# Altium integrated library Renesas Microprocessor SuperH.IntLib: 433 symbols (part 4 of 62)
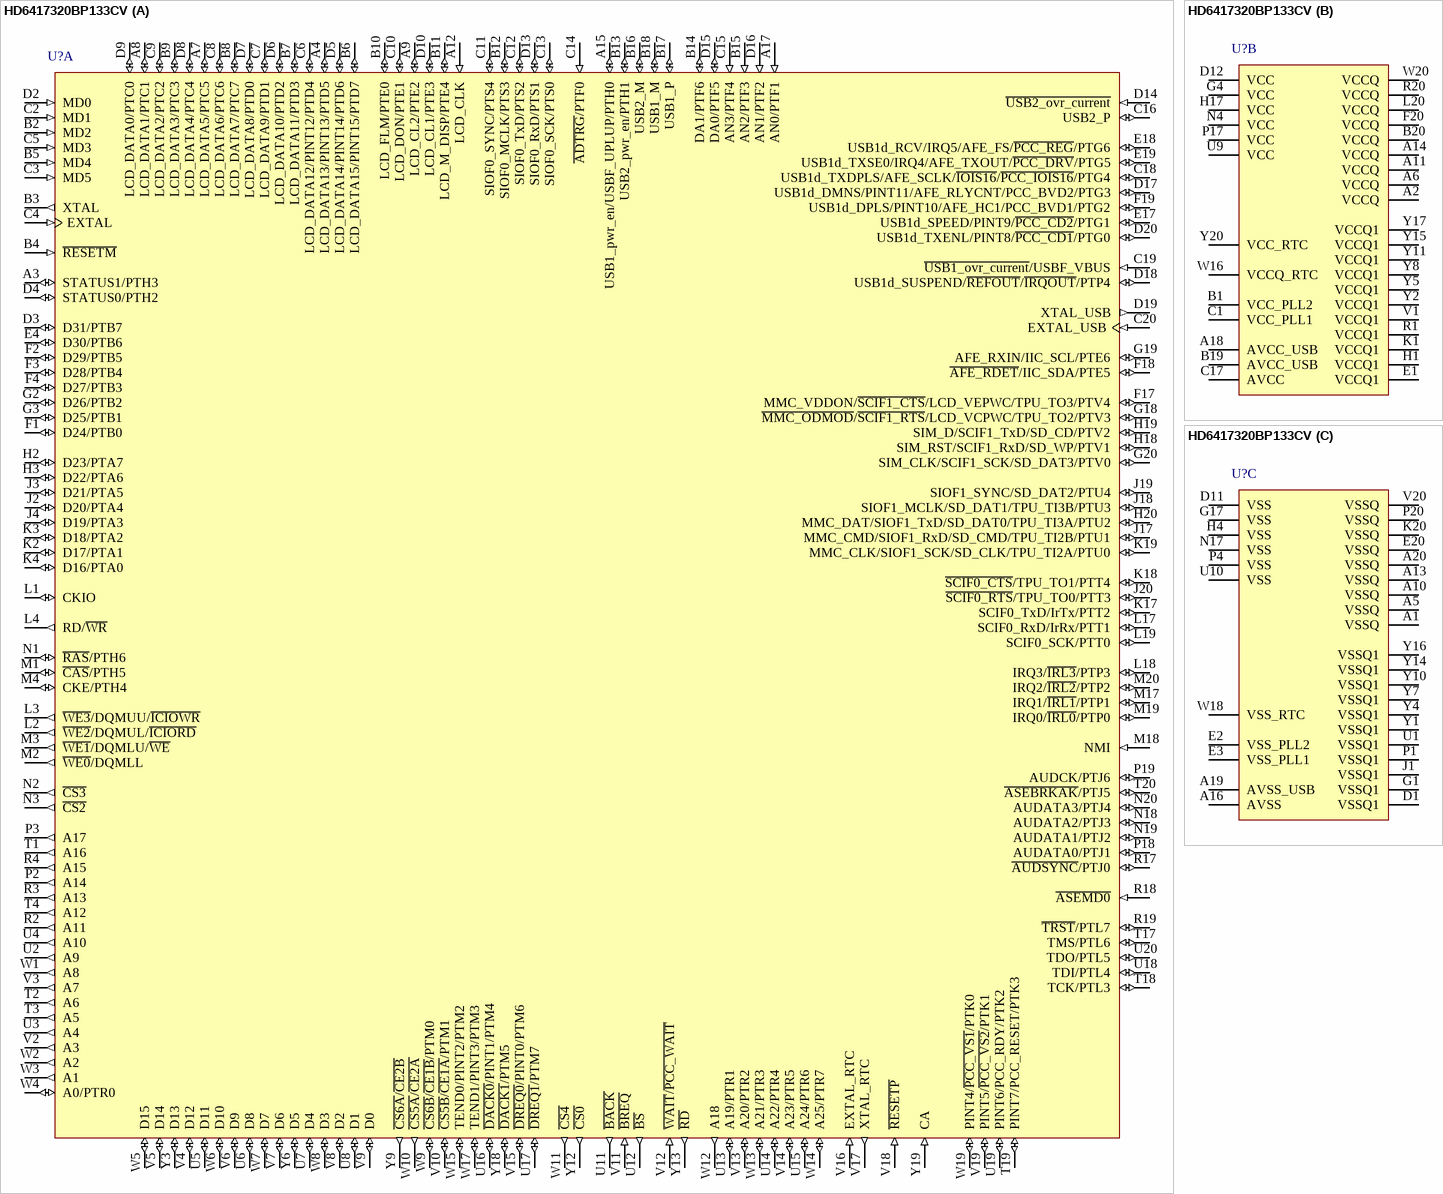
[diagram p281: symbol HD6417320BP133CV]

## HD6417320BP133CV
designator U?
32-Bit RISC Microcomputer, SH7700 Series, SH3-DSP core, 133MHz, 16K RAM, 17x17mm 256-pin CSP, -20 to 75°C; Published: 28-Aug-2009; DatasheetVersion: Rev.3.00, Jan-2008; PackageVersion: Sep-2008; PackageReference: PLBG0256GA-A; Publisher: Altium Limited; PackageDescription: 256-Ball Plastic Low Profile Fine-Pitch BGA, 17 x 17 mm Body, 0.8 mm Pitch; Code_JEITA: P-LFBGA256-17x17-0.80; ComponentLink1Description: Manufacturer Link; ComponentLink1URL: http://www.renesas.com/fmwk.jsp?cnt=sh7720_root.jsp&fp=/products/mpumcu/superh_family/sh7700_series/sh7720_group/; ComponentLink2Description: Datasheet; ComponentLink2URL: http://documentation.renesas.com/eng/products/mpumcu/rej09b0033_sh7720.pdf; ComponentLink3Description: Packaging Specification; ComponentLink3URL: http://sg.renesas.com/media/products/common_info/package/pdf/ic/code/plbg0256ga_a.pdf
footprint PLBG0256GA-A (BGA, 256-Leads, Body 17x17mm, Pitch 0.8mm)
part A pins: A3 STATUS1/PTH3 (io) "Status output/general-purpose port", A4 LCD_DATA13/PINT13/PTD5 (io) "LCD data/port interrupt/general-purpose port", A7 LCD_DATA5/PTC5 (io) "LCD data/general-purpose port", A8 LCD_DATA1/PTC1 (io) "LCD data/general-purpose port", A9 LCD_CL2/PTE2 (io) "LCD shift clock 2/general-purpose port", A12 LCD_CLK (in) "LCD clock source", A15 USB1_pwr_en/USBF_UPLUP/PTH0 (io) "USB1 power-enable/pull-up control/general-purpose port", A17 AN0/PTF1 (in) "ADC analog input/general-purpose port", B2 MD2 (in) "Clock mode setting", B3 XTAL (out) "Crystal", B4 ~{RESETM} (in) "Manual reset", B5 MD4 (in) "Bus width setting", B6 LCD_DATA15/PINT15/PTD7 (io) "LCD data/port interrupt/general-purpose port", B7 LCD_DATA11/PTD3 (io) "LCD data/general-purpose port", B8 LCD_DATA7/PTC7 (io) "LCD data/general-purpose port", B9 LCD_DATA3/PTC3 (io) "LCD data/general-purpose port", B10 LCD_FLM/PTE0 (io) "LCD line marker/general-purpose port", B11 LCD_M_DISP/PTE4 (io) "LCD current-alternating signal/general-purpose port", B12 SIOF0_MCLK/PTS3 (io) "SIOF master clock/general-purpose port", B13 USB2_pwr_en/PTH1 (io) "USB2 power-enable/general-purpose port", B14 DA1/PTF6 (io) "DAC analog output/general-purpose port", B15 AN2/PTF3 (in) "ADC analog input/general-purpose port", B16 USB2_M (io) "USB D-port 2", B17 USB1_P (io) "USB D+port 1", B18 USB1_M (io) "USB D-port 1", C2 MD1 (in) "Clock mode setting", C3 MD5 (in) "Endian setting", C4 EXTAL (in) "External clock", C5 MD3 (in) "Bus width setting", C6 LCD_DATA12/PINT12/PTD4 (io) "LCD data/port interrupt/general-purpose port", C7 LCD_DATA9/PTD1 (io) "LCD data/general-purpose port", C8 LCD_DATA6/PTC6 (io) "LCD data/general-purpose port", C9 LCD_DATA2/PTC2 (io) "LCD data/general-purpose port", C10 LCD_DON/PTE1 (io) "LCD display on signal/general-purpose port", C11 SIOF0_SYNC/PTS4 (io) "SIOF frame sync/general-purpose port", C12 SIOF0_TxD/PTS2 (io) "SIOF transmit data/general-purpose port", C13 SIOF0_SCK/PTS0 (io) "SIOF serial clock/general-purpose port", C14 ~{ADTRG}/PTF0 (in) "ADC external trigger/general-purpose port", C15 AN3/PTF4 (in) "ADC analog input/general-purpose port", C16 USB2_P (io) "USB D+port 2", C18 USB1d_TXDPLS/AFE_SCLK/~{IOIS16}/~{PCC_IOIS16}/PTG4 (io) "D+transmit output/AFE shift clock/16-bit IO/PCCI 6-bit IO/general-purpose port", C19 ~{USB1_ovr_current}/USBF_VBUS (in) "USB1 overcurrent/monitor", C20 EXTAL_USB (in) "USB external clock", D2 MD0 (in) "Clock mode setting", D3 D31/PTB7 (io) "Data bus/general-purpose port", D4 STATUS0/PTH2 (io) "Status output/general-purpose port", D5 LCD_DATA14/PINT14/PTD6 (io) "LCD data/port interrupt/general-purpose port", D6 LCD_DATA10/PTD2 (io) "LCD data/general-purpose port", D7 LCD_DATA8/PTD0 (io) "LCD data/general-purpose port", D8 LCD_DATA4/PTC4 (io) "LCD data/general-purpose port", D9 LCD_DATA0/PTC0 (io) "LCD data/general-purpose port", D10 LCD_CL1/PTE3 (io) "LCD shift clock 1/general-purpose port", D13 SIOF0_RxD/PTS1 (io) "SIOF receive data/general-purpose port", D14 ~{USB2_ovr_current} (in) "USB2 port overcurrent", D15 DA0/PTF5 (io) "DAC analog output/general-purpose port", D16 AN1/PTF2 (in) "ADC analog input/general-purpose port", D17 USB1d_DMNS/PINT11/AFE_RLYCNT/PCC_BVD2/PTG3 (io) "D- signal input/port interrupt/AFE on-hook control/PCC buttery detection 2/general-purpose port", D18 USB1d_SUSPEND/~{REFOUT}/~{IRQOUT}/PTP4 (io) "Suspend state/bus request (refresh)/bus request (interrupt)/general-purpose port", D19 XTAL_USB (out) "USB crystal", D20 USB1d_TXENL/PINT8/~{PCC_CD1}/PTG0 (io) "Driver output enable/port interrupt/PCC card detection 1/general-purpose port", E4 D30/PTB6 (io) "Data bus/general-purpose port", E17 USB1d_SPEED/PINT9/~{PCC_CD2}/PTG1 (io) "Speed control/port interrupt/PCC card detection 2/general-purpose port", E18 USB1d_RCV/IRQ5/AFE_FS/~{PCC_REG}/PTG6 (io) "Receive data/interrupt/area indicate signal/AFE frame synchronization/PCC space indication/general-purpose port", E19 USB1d_TXSE0/IRQ4/AFE_TXOUT/~{PCC_DRV}/PTG5 (io) "SE0 state/interrupt/AFE serial transmission/PCC buffer control/general-purpose port", F1 D24/PTB0 (io) "Data bus/general-purpose port", F2 D29/PTB5 (io) "Data bus/general-purpose port", F3 D28/PTB4 (io) "Data bus/general-purpose port", F4 D27/PTB3 (io) "Data bus/general-purpose port", F17 MMC_VDDON/~{SCIF1_CTS}/LCD_VEPWC/TPU_TO3/PTV4 (io) "MMC card power supply control/SCIF transmit enable/LCD power supply control/TPU compare-match output/general-purpose port", F18 ~{AFE_RDET}/IIC_SDA/PTE5 (io) "AFE ringing/IIC data I/O /general-purpose port", F19 USB1d_DPLS/PINT10/AFE_HC1/PCC_BVD1/PTG2 (io) "D+ transmit input/port interrupt/AFE hardware control/PCC battery detection 1/general-purpose port", G2 D26/PTB2 (io) "Data bus/general-purpose port", G3 D25/PTB1 (io) "Data bus/general-purpose port", G18 ~{MMC_ODMOD}/~{SCIF1_RTS}/LCD_VCPWC/TPU_TO2/PTV3 (io) "MMC open drain control/SCIF transmit request/LCD power supply control/TPU compare-match output/general-purpose port", G19 AFE_RXIN/IIC_SCL/PTE6 (io) "AFE serial receive/IIC clock/general-purpose port", G20 SIM_CLK/SCIF1_SCK/SD_DAT3/PTV0 (io) "SIM clock/SCIF serial clock/SD data/general-purpose port", H2 D23/PTA7 (io) "Data bus/general-purpose port", H3 D22/PTA6 (io) "Data bus/general-purpose port", H18 SIM_RST/SCIF1_RxD/SD_WP/PTV1 (io) "SIM reset/SCIF receive data/SD write protect/general-purpose port", H19 SIM_D/SCIF1_TxD/SD_CD/PTV2 (io) "SIM data/SCIF transmit data/SD card detection/general-purpose port", H20 MMC_DAT/SIOF1_TxD/SD_DAT0/TPU_TI3A/PTU2 (io) "MMC data/SIOF transmit data/SD data/TPU clock input/general-purpose port", J2 D20/PTA4 (io) "Data bus/general-purpose port", J3 D21/PTA5 (io) "Data bus/general-purpose port", J4 D19/PTA3 (io) "Data bus/general-purpose port", J17 MMC_CMD/SIOF1_RxD/SD_CMD/TPU_TI2B/PTU1 (io) "MMC command/SIOF receive data/SD command/TPU clock input/general-purpose port", J18 SIOF1_MCLK/SD_DAT1/TPU_TI3B/PTU3 (io) "SIOF master clock/SD data/TPU clock input/general-purpose port", J19 SIOF1_SYNC/SD_DAT2/PTU4 (io) "SIOF frame sync/SD data/general-purpose port", J20 ~{SCIF0_RTS}/TPU_TO0/PTT3 (io) "SCIF transmit request/TPU compare-match output/general-purpose port", K2 D17/PTA1 (io) "Data bus/general-purpose port", K3 D18/PTA2 (io) "Data bus/general-purpose port", K4 D16/PTA0 (io) "Data bus/general-purpose port", K17 SCIF0_TxD/IrTx/PTT2 (io) "SCIF transmit data/IrDA transmit data/general-purpose port", K18 ~{SCIF0_CTS}/TPU_TO1/PTT4 (io) "SCIF transmit enable/TPU compare-match output/general-purpose port", K19 MMC_CLK/SIOF1_SCK/SD_CLK/TPU_TI2A/PTU0 (io) "MMC clock/SIOF serial clock/SD clock/TPU clock input/general-purpose port", L1 CKIO (io) "System clock", L2 ~{WE2}/DQMUL/~{ICIORD} (out) "Second-highest-byte write/DQ mask UL/IO read", L3 ~{WE3}/DQMUU/~{ICIOWR} (out) "Highest-byte write/DQ mask UU/IO write", L4 RD/~{WR} (out) "Read/write signal", L17 SCIF0_RxD/IrRx/PTT1 (io) "SCIF receive data/IrDA receive data/general-purpose port", L18 IRQ3/~{IRL3}/PTP3 (io) "Interrupt/interrupt/general-purpose port", L19 SCIF0_SCK/PTT0 (io) "SCIF serial clock/general-purpose port", M1 ~{CAS}/PTH5 (io) "Column address/general-purpose port", M2 ~{WE0}/DQMLL (out) "Lowest-byte write/DQ mask LL", M3 ~{WE1}/DQMLU/~{WE} (out) "Second-lowest-byte write/DQ mask LU/write enable", M4 CKE/PTH4 (io) "Clock enable/general-purpose port O/IO", M17 IRQ1/~{IRL1}/PTP1 (io) "Interrupt/interrupt/general-purpose port", M18 NMI (in) "NMI interrupt", M19 IRQ0/~{IRL0}/PTP0 (io) "Interrupt/interrupt/general-purpose port", M20 IRQ2/~{IRL2}/PTP2 (io) "Interrupt/interrupt/general-purpose port", N1 ~{RAS}/PTH6 (io) "Row address/general-purpose port O/IO", N2 ~{CS3} (out) "Chip select", N3 ~{CS2} (out) "Chip select", N18 AUDATA2/PTJ3 (io) "AUD data/general-purpose port", N19 AUDATA1/PTJ2 (io) "AUD data/general-purpose port", N20 AUDATA3/PTJ4 (io) "AUD data/general-purpose port", P2 A14 (out) "Address bus", P3 A17 (out) "Address bus", P18 AUDATA0/PTJ1 (io) "AUD data/general-purpose port", P19 AUDCK/PTJ6 (io) "AUD clock/general-purpose port", R2 A11 (out) "Address bus", R3 A13 (out) "Address bus", R4 A15 (out) "Address bus", R17 ~{AUDSYNC}/PTJ0 (io) "AUD synchronous signal/general-purpose port", R18 ~{ASEMD0} (in) "ASE mode", R19 ~{TRST}/PTL7 (io) "Test reset/general-purpose port", T1 A16 (out) "Address bus", T2 A6 (out) "Address bus", T3 A5 (out) "Address bus", T4 A12 (out) "Address bus", T17 TMS/PTL6 (io) "Test mode select/general-purpose port", T18 TCK/PTL3 (io) "Test clock/general-purpose port", T19 PINT7/PCC_RESET/PTK3 (io) "Port interrupt/PCC reset/general-purpose port", T20 ~{ASEBRKAK}/PTJ5 (io) "ASE break mode acknowledge/general-purpose port", U2 A9 (out) "Address bus", U3 A4 (out) "Address bus", U4 A10 (out) "Address bus", U5 D11 (io) "Data bus", U6 D8 (io) "Data bus", U7 D4 (io) "Data bus", U8 D1 (io) "Data bus", U11 ~{BACK} (out) "Bus request acknowledge", U12 ~{BS} (out) "Bus start", U13 A19/PTR1 (io) "Address bus/general-purpose port", U14 A22/PTR4 (io) "Address bus/general-purpose port", U15 A24/PTR6 (io) "Address bus/general-purpose port", U16 ~{DACK0}/PINT1/PTM4 (io) "DMA transfer request reception/port interrupt/general-purpose port", U17 ~{DREQ1}/PTM7 (io) "DMA transfer request/general-purpose port", U18 TDI/PTL4 (io) "Test data input/general-purpose port", U19 PINT6/PCC_RDY/PTK2 (io) "Port interrupt/PCC ready/general-purpose port", U20 TDO/PTL5 (io) "Test data output/general-purpose port", V2 A3 (out) "Address bus", V3 A7 (out) "Address bus", V4 D12 (io) "Data bus", V5 D14 (io) "Data bus", V6 D9 (io) "Data bus", V7 D6 (io) "Data bus", V8 D2 (io) "Data bus", V9 D0 (io) "Data bus", V10 ~{CS5B}/~{CE1A}/PTM1 (io) "Chip select/chip select/general-purpose port", V11 ~{BREQ} (in) "Bus request", V12 ~{WAIT}/~{PCC_WAIT} (in) "Wait/PCC wait", V13 A20/PTR2 (io) "Address bus/general-purpose port", V14 A23/PTR5 (io) "Address bus/general-purpose port", V15 ~{DREQ0}/PINT0/PTM6 (io) "DMA transfer request/port interrupt/general-purpose port", V16 EXTAL_RTC (in) "RTC external clock", V17 XTAL_RTC (out) "RTC crystal", V18 ~{RESETP} (in) "Power-on reset", V19 PINT5/~{PCC_VS2}/PTK1 (io) "Port interrupt/PCC voltage detection 2/general-purpose port", W1 A8 (out) "Address bus", W2 A2 (out) "Address bus", W3 A1 (out) "Address bus", W4 A0/PTR0 (io) "Address bus/general-purpose port", W5 D15 (io) "Data bus", W6 D10 (io) "Data bus", W7 D7 (io) "Data bus", W8 D3 (io) "Data bus", W9 ~{CS6B}/~{CE1B}/PTM0 (io) "Chip select/chip select/general-purpose port", W10 ~{CS5A}/~{CE2A} (out) "Chip select/chip select", W11 ~{CS4} (out) "Chip select", W12 A18 (out) "Address bus", W13 A21/PTR3 (io) "Address bus/general-purpose port", W14 A25/PTR7 (io) "Address bus/general-purpose port", W15 TEND0/PINT2/PTM2 (io) "DMA transfer end/port interrupt/general-purpose port", W17 TEND1/PINT3/PTM3 (io) "DMA transfer end/port interrupt/general-purpose port", W19 PINT4/~{PCC_VS1}/PTK0 (io) "Port interrupt/PCC voltage detection 1/general-purpose port", Y3 D13 (io) "Data bus", Y6 D5 (io) "Data bus", Y9 ~{CS6A}/~{CE2B} (out) "Chip select/chip select", Y12 ~{CS0} (out) "Chip select", Y13 ~{RD} (out) "Read strobe", Y18 ~{DACK1}/PTM5 (io) "DMA transfer request reception/general-purpose port", Y19 CA (in) "Chip active"
part B pins: A2 VCCQ (power) "I/O power supply (3.3V)", A6 VCCQ (power) "I/O power supply (3.3V)", A11 VCCQ (power) "I/O power supply (3.3V)", A14 VCCQ (power) "I/O power supply (3.3V)", A18 AVCC_USB (power) "USB power supply (3.3V)", B1 VCC_PLL2 (power) "PLL2 power supply (1.5V)", B19 AVCC_USB (power) "USB power supply (3.3V)", B20 VCCQ (power) "I/O power supply (3.3V)", C1 VCC_PLL1 (power) "PLL1 power supply (1.5V)", C17 AVCC (power) "Analog power supply (3.3V)", D12 VCC (power) "Internal power supply (1.5V)", E1 VCCQ1 (power) "I/O power supply (1.8/3.3V)", F20 VCCQ (power) "I/O power supply (3.3V)", G4 VCC (power) "Internal power supply (1.5V)", H1 VCCQ1 (power) "I/O power supply (1.8/3.3V)", H17 VCC (power) "Power-supply (1.5V)", K1 VCCQ1 (power) "I/O power supply (1.8/3.3V)", L20 VCCQ (power) "I/O power supply (3.3V)", N4 VCC (power) "Power-supply (1.5V)", P17 VCC (power) "Internal power supply (1.5V)", R1 VCCQ1 (power) "I/O power supply (1.8/3.3V)", R20 VCCQ (power) "I/O power supply (3.3V)", U9 VCC (power) "Internal power supply (1.5V)", V1 VCCQ1 (power) "I/O power supply (1.8/3.3V)", W16 VCCQ_RTC (power) "RTC power supply (3.3V)", W20 VCCQ (power) "I/O power supply (3.3V)", Y2 VCCQ1 (power) "I/O power supply (1.8/3.3V)", Y5 VCCQ1 (power) "I/O power supply (1.8/3.3V)", Y8 VCCQ1 (power) "I/O power supply (1.8/3.3V)", Y11 VCCQ1 (power) "I/O power supply (1.8/3.3V)", Y15 VCCQ1 (power) "I/O power supply (1.8/3.3V)", Y17 VCCQ1 (power) "I/O power supply (1.8/3.3V)", Y20 VCC_RTC (power) "RTC power supply (1.5V)"
part C pins: A1 VSSQ (power) "I/O power supply (0V)", A5 VSSQ (power) "I/O power supply (0V)", A10 VSSQ (power) "I/O power supply (0V)", A13 VSSQ (power) "I/O power supply (0V)", A16 AVSS (power) "Analog power supply (0V)", A19 AVSS_USB (power) "USB power supply (0V)", A20 VSSQ (power) "I/O power supply (0V)", D1 VSSQ1 (power) "I/O power supply (0V)", D11 VSS (power) "Internal power supply (0V)", E2 VSS_PLL2 (power) "PLL2 power supply (0V)", E3 VSS_PLL1 (power) "PLL1 power supply (0V)", E20 VSSQ (power) "I/O power supply (0V)", G1 VSSQ1 (power) "I/O power supply (0V)", G17 VSS (power) "Internal power supply (0V)", H4 VSS (power) "Power-supply (0V)", J1 VSSQ1 (power) "I/O power supply (0V)", K20 VSSQ (power) "I/O power supply (0V)", N17 VSS (power) "Power-supply (0V)", P1 VSSQ1 (power) "I/O power supply (0V)", P4 VSS (power) "Internal power supply (0V)", P20 VSSQ (power) "I/O power supply (0V)", U1 VSSQ1 (power) "I/O power supply (0V)", U10 VSS (power) "Internal power supply (0V)", V20 VSSQ (power) "I/O power supply (0V)", W18 VSS_RTC (power) "RTC power supply (0V)", Y1 VSSQ1 (power) "I/O power supply (0V)", Y4 VSSQ1 (power) "I/O power supply (0V)", Y7 VSSQ1 (power) "I/O power supply (0V)", Y10 VSSQ1 (power) "I/O power supply (0V)", Y14 VSSQ1 (power) "I/O power supply (0V)", Y16 VSSQ1 (power) "I/O power supply (0V)"

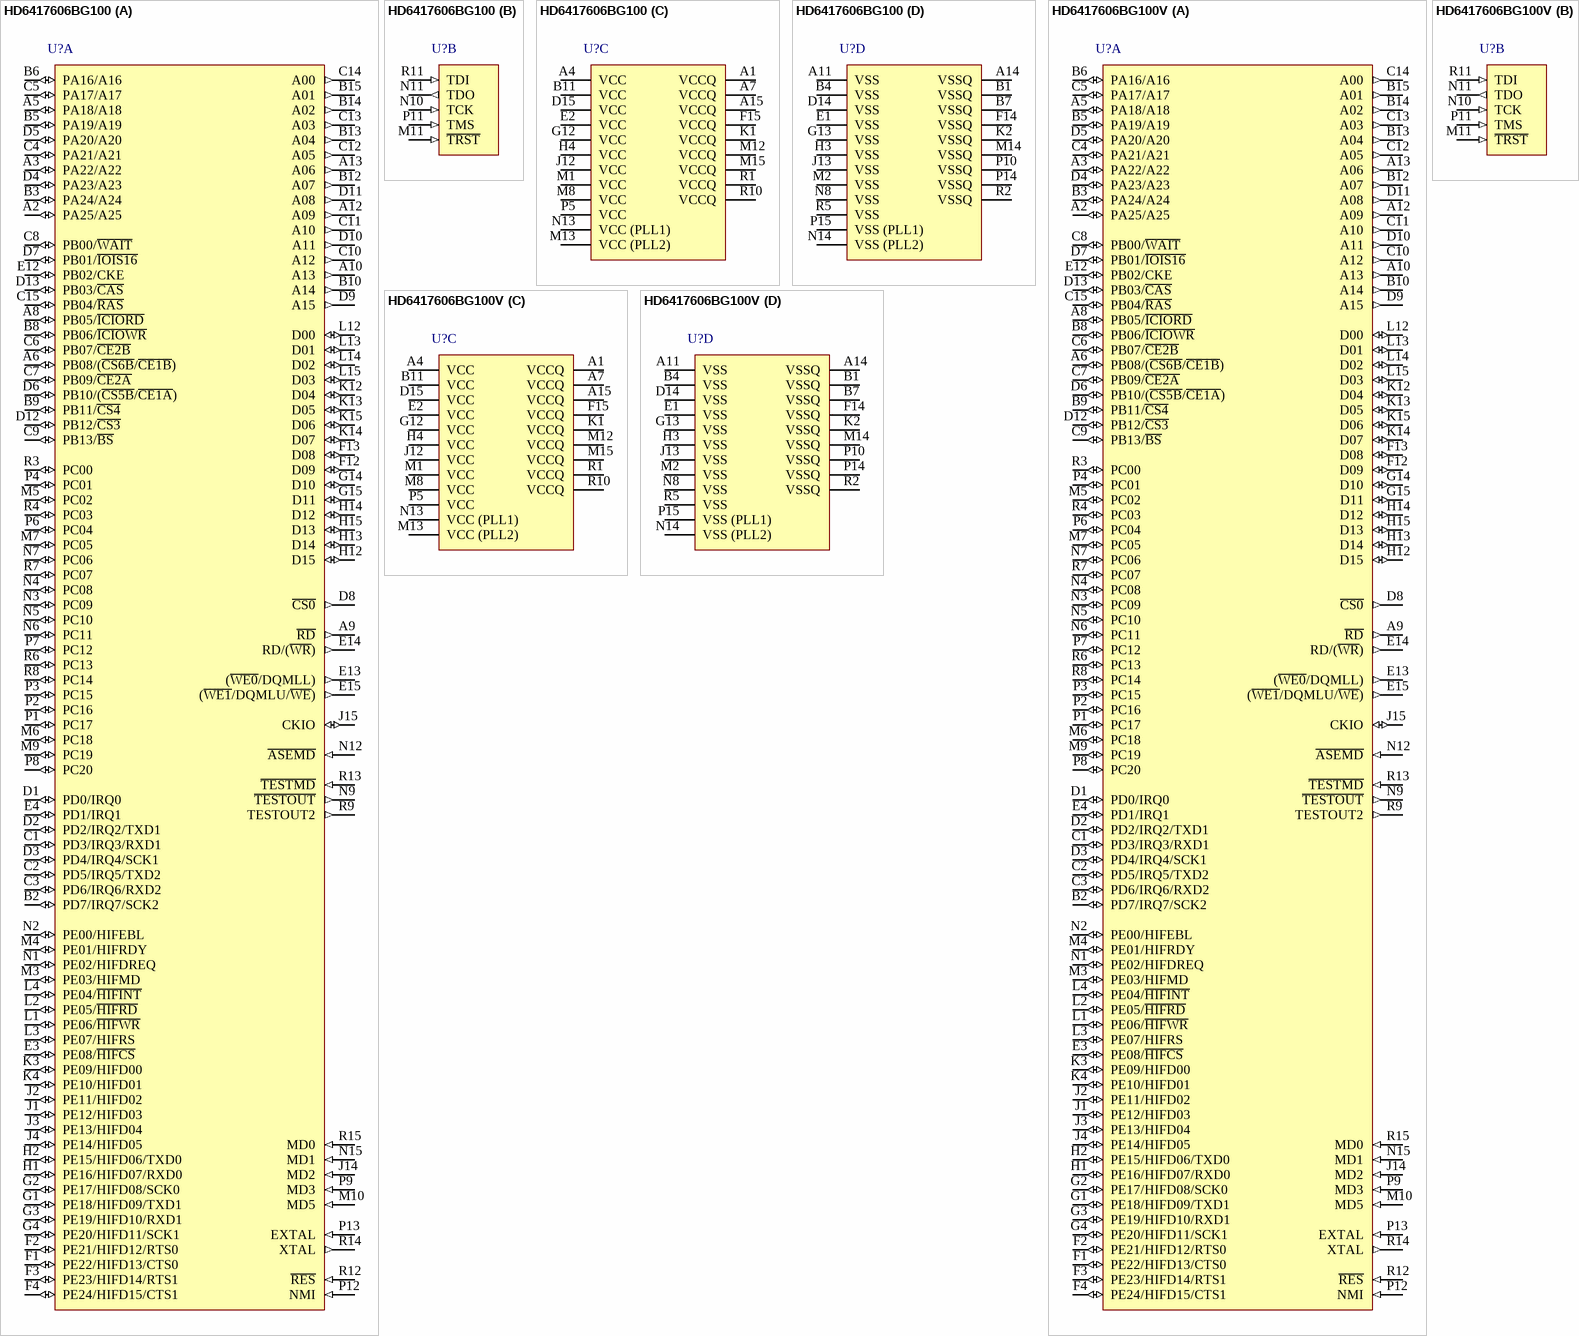
[diagram p13: symbols HD6417606BG100 to HD6417606BG100V]

## HD6417606BG100
designator U?
32-Bit RISC Microcomputer, SH7606 Series, SH-2 core, 100MHz, 4K RAM, PLBG0176GA-A (BP-176) Package, -20 to 75°C; Published: 28-Aug-2009; DatasheetVersion: Rev.4.00, Sep-2007; PackageVersion: Apr-2006; PackageReference: PLBG0176GA-A; Publisher: Altium Limited; PackageDescription: 176-Ball Plastic Low Profile Fine-Pitch BGA, 13 x 13 mm Body, 0.8 mm Pitch; Code_JEITA: P-LFBGA176-13x13-0.80; ComponentLink1Description: Manufacturer Link; ComponentLink1URL: http://www.renesas.com/fmwk.jsp?cnt=sh7606_root.jsp&fp=/products/mpumcu/superh_family/sh7606_series/sh7606_group/; ComponentLink2Description: Datasheet; ComponentLink2URL: http://documentation.renesas.com/eng/products/mpumcu/rej09b0239_sh7606.pdf; ComponentLink3Description: Packaging Specification; ComponentLink3URL: http://sg.renesas.com/media/products/common_info/package/pdf/ic/code/plbg0176ga_a.pdf
footprint PLBG0176GA-A (BGA, 176-Leads, Body 13x13mm, Pitch 0.8mm)
part A pins: A2 PA25/A25 (io), A3 PA22/A22 (io), A5 PA18/A18 (io), A6 PB08/(~{CS6B}/~{CE1B}) (io), A8 PB05/~{ICIORD} (io), A9 ~{RD} (out), A10 A13 (out), A12 A09 (out), A13 A06 (out), B2 PD7/IRQ7/SCK2 (io), B3 PA24/A24 (io), B5 PA19/A19 (io), B6 PA16/A16 (io), B8 PB06/~{ICIOWR} (io), B9 PB11/~{CS4} (io), B10 A14 (out), B12 A07 (out), B13 A04 (out), B14 A02 (out), B15 A01 (out), C1 PD3/IRQ3/RXD1 (io), C2 PD5/IRQ5/TXD2 (io), C3 PD6/IRQ6/RXD2 (io), C4 PA21/A21 (io), C5 PA17/A17 (io), C6 PB07/~{CE2B} (io), C7 PB09/~{CE2A} (io), C8 PB00/~{WAIT} (io), C9 PB13/~{BS} (io), C10 A12 (out), C11 A10 (out), C12 A05 (out), C13 A03 (out), C14 A00 (out), C15 PB04/~{RAS} (io), D1 PD0/IRQ0 (io), D2 PD2/IRQ2/TXD1 (io), D3 PD4/IRQ4/SCK1 (io), D4 PA23/A23 (io), D5 PA20/A20 (io), D6 PB10/(~{CS5B}/~{CE1A}) (io), D7 PB01/~{IOIS16} (io), D8 ~{CS0} (out), D9 A15 (out), D10 A11 (out), D11 A08 (out), D12 PB12/~{CS3} (io), D13 PB03/~{CAS} (io), E3 PE08/~{HIFCS} (io), E4 PD1/IRQ1 (io), E12 PB02/CKE (io), E13 (~{WE0}/DQMLL) (out), E14 RD/(~{WR}) (out), E15 (~{WE1}/DQMLU/~{WE}) (out), F1 PE22/HIFD13/CTS0 (io), F2 PE21/HIFD12/RTS0 (io), F3 PE23/HIFD14/RTS1 (io), F4 PE24/HIFD15/CTS1 (io), F12 D09 (io), F13 D08 (io), G1 PE18/HIFD09/TXD1 (io), G2 PE17/HIFD08/SCK0 (io), G3 PE19/HIFD10/RXD1 (io), G4 PE20/HIFD11/SCK1 (io), G14 D10 (io), G15 D11 (io), H1 PE16/HIFD07/RXD0 (io), H2 PE15/HIFD06/TXD0 (io), H12 D15 (io), H13 D14 (io), H14 D12 (io), H15 D13 (io), J1 PE12/HIFD03 (io), J2 PE11/HIFD02 (io), J3 PE13/HIFD04 (io), J4 PE14/HIFD05 (io), J14 MD2 (in), J15 CKIO (io), K3 PE09/HIFD00 (io), K4 PE10/HIFD01 (io), K12 D04 (io), K13 D05 (io), K14 D07 (io), K15 D06 (io), L1 PE06/~{HIFWR} (io), L2 PE05/~{HIFRD} (io), L3 PE07/HIFRS (io), L4 PE04/~{HIFINT} (io), L12 D00 (io), L13 D01 (io), L14 D02 (io), L15 D03 (io), M3 PE03/HIFMD (io), M4 PE01/HIFRDY (io), M5 PC02 (io), M6 PC18 (io), M7 PC05 (io), M9 PC19 (io), M10 MD5 (in), N1 PE02/HIFDREQ (io), N2 PE00/HIFEBL (io), N3 PC09 (io), N4 PC08 (io), N5 PC10 (io), N6 PC11 (io), N7 PC06 (io), N9 ~{TESTOUT} (out), N12 ~{ASEMD} (in), N15 MD1 (in), P1 PC17 (io), P2 PC16 (io), P3 PC15 (io), P4 PC01 (io), P6 PC04 (io), P7 PC12 (io), P8 PC20 (io), P9 MD3 (in), P12 NMI (in), P13 EXTAL (in), R3 PC00 (io), R4 PC03 (io), R6 PC13 (io), R7 PC07 (io), R8 PC14 (io), R9 TESTOUT2 (out), R12 ~{RES} (in), R13 ~{TESTMD} (in), R14 XTAL (out), R15 MD0 (in)
part B pins: M11 ~{TRST} (in), N10 TCK (in), N11 TDO (out), P11 TMS (in), R11 TDI (in)
part C pins: A1 VCCQ (power), A4 VCC (power), A7 VCCQ (power), A15 VCCQ (power), B11 VCC (power), D15 VCC (power), E2 VCC (power), F15 VCCQ (power), G12 VCC (power), H4 VCC (power), J12 VCC (power), K1 VCCQ (power), M1 VCC (power), M8 VCC (power), M12 VCCQ (power), M13 VCC (PLL2) (power), M15 VCCQ (power), N13 VCC (PLL1) (power), P5 VCC (power), R1 VCCQ (power), R10 VCCQ (power)
part D pins: A11 VSS (power), A14 VSSQ (power), B1 VSSQ (power), B4 VSS (power), B7 VSSQ (power), D14 VSS (power), E1 VSS (power), F14 VSSQ (power), G13 VSS (power), H3 VSS (power), J13 VSS (power), K2 VSSQ (power), M2 VSS (power), M14 VSSQ (power), N8 VSS (power), N14 VSS (PLL2) (power), P10 VSSQ (power), P14 VSSQ (power), P15 VSS (PLL1) (power), R2 VSSQ (power), R5 VSS (power)

## HD6417606BG100V
designator U?
32-Bit RISC Microcomputer, SH7606 Series, SH-2 core, 100MHz, 4K RAM, PLBG0176GA-A (BP-176V) Package, -20 to 75°C; Published: 28-Aug-2009; DatasheetVersion: Rev.4.00, Sep-2007; PackageVersion: Apr-2006; PackageReference: PLBG0176GA-A; Publisher: Altium Limited; PackageDescription: 176-Ball Plastic Low Profile Fine-Pitch BGA, 13 x 13 mm Body, 0.8 mm Pitch; Code_JEITA: P-LFBGA176-13x13-0.80; ComponentLink1Description: Manufacturer Link; ComponentLink1URL: http://www.renesas.com/fmwk.jsp?cnt=sh7606_root.jsp&fp=/products/mpumcu/superh_family/sh7606_series/sh7606_group/; ComponentLink2Description: Datasheet; ComponentLink2URL: http://documentation.renesas.com/eng/products/mpumcu/rej09b0239_sh7606.pdf; ComponentLink3Description: Packaging Specification; ComponentLink3URL: http://sg.renesas.com/media/products/common_info/package/pdf/ic/code/plbg0176ga_a.pdf
footprint PLBG0176GA-A (BGA, 176-Leads, Body 13x13mm, Pitch 0.8mm)
part A pins: A2 PA25/A25 (io), A3 PA22/A22 (io), A5 PA18/A18 (io), A6 PB08/(~{CS6B}/~{CE1B}) (io), A8 PB05/~{ICIORD} (io), A9 ~{RD} (out), A10 A13 (out), A12 A09 (out), A13 A06 (out), B2 PD7/IRQ7/SCK2 (io), B3 PA24/A24 (io), B5 PA19/A19 (io), B6 PA16/A16 (io), B8 PB06/~{ICIOWR} (io), B9 PB11/~{CS4} (io), B10 A14 (out), B12 A07 (out), B13 A04 (out), B14 A02 (out), B15 A01 (out), C1 PD3/IRQ3/RXD1 (io), C2 PD5/IRQ5/TXD2 (io), C3 PD6/IRQ6/RXD2 (io), C4 PA21/A21 (io), C5 PA17/A17 (io), C6 PB07/~{CE2B} (io), C7 PB09/~{CE2A} (io), C8 PB00/~{WAIT} (io), C9 PB13/~{BS} (io), C10 A12 (out), C11 A10 (out), C12 A05 (out), C13 A03 (out), C14 A00 (out), C15 PB04/~{RAS} (io), D1 PD0/IRQ0 (io), D2 PD2/IRQ2/TXD1 (io), D3 PD4/IRQ4/SCK1 (io), D4 PA23/A23 (io), D5 PA20/A20 (io), D6 PB10/(~{CS5B}/~{CE1A}) (io), D7 PB01/~{IOIS16} (io), D8 ~{CS0} (out), D9 A15 (out), D10 A11 (out), D11 A08 (out), D12 PB12/~{CS3} (io), D13 PB03/~{CAS} (io), E3 PE08/~{HIFCS} (io), E4 PD1/IRQ1 (io), E12 PB02/CKE (io), E13 (~{WE0}/DQMLL) (out), E14 RD/(~{WR}) (out), E15 (~{WE1}/DQMLU/~{WE}) (out), F1 PE22/HIFD13/CTS0 (io), F2 PE21/HIFD12/RTS0 (io), F3 PE23/HIFD14/RTS1 (io), F4 PE24/HIFD15/CTS1 (io), F12 D09 (io), F13 D08 (io), G1 PE18/HIFD09/TXD1 (io), G2 PE17/HIFD08/SCK0 (io), G3 PE19/HIFD10/RXD1 (io), G4 PE20/HIFD11/SCK1 (io), G14 D10 (io), G15 D11 (io), H1 PE16/HIFD07/RXD0 (io), H2 PE15/HIFD06/TXD0 (io), H12 D15 (io), H13 D14 (io), H14 D12 (io), H15 D13 (io), J1 PE12/HIFD03 (io), J2 PE11/HIFD02 (io), J3 PE13/HIFD04 (io), J4 PE14/HIFD05 (io), J14 MD2 (in), J15 CKIO (io), K3 PE09/HIFD00 (io), K4 PE10/HIFD01 (io), K12 D04 (io), K13 D05 (io), K14 D07 (io), K15 D06 (io), L1 PE06/~{HIFWR} (io), L2 PE05/~{HIFRD} (io), L3 PE07/HIFRS (io), L4 PE04/~{HIFINT} (io), L12 D00 (io), L13 D01 (io), L14 D02 (io), L15 D03 (io), M3 PE03/HIFMD (io), M4 PE01/HIFRDY (io), M5 PC02 (io), M6 PC18 (io), M7 PC05 (io), M9 PC19 (io), M10 MD5 (in), N1 PE02/HIFDREQ (io), N2 PE00/HIFEBL (io), N3 PC09 (io), N4 PC08 (io), N5 PC10 (io), N6 PC11 (io), N7 PC06 (io), N9 ~{TESTOUT} (out), N12 ~{ASEMD} (in), N15 MD1 (in), P1 PC17 (io), P2 PC16 (io), P3 PC15 (io), P4 PC01 (io), P6 PC04 (io), P7 PC12 (io), P8 PC20 (io), P9 MD3 (in), P12 NMI (in), P13 EXTAL (in), R3 PC00 (io), R4 PC03 (io), R6 PC13 (io), R7 PC07 (io), R8 PC14 (io), R9 TESTOUT2 (out), R12 ~{RES} (in), R13 ~{TESTMD} (in), R14 XTAL (out), R15 MD0 (in)
part B pins: M11 ~{TRST} (in), N10 TCK (in), N11 TDO (out), P11 TMS (in), R11 TDI (in)
part C pins: A1 VCCQ (power), A4 VCC (power), A7 VCCQ (power), A15 VCCQ (power), B11 VCC (power), D15 VCC (power), E2 VCC (power), F15 VCCQ (power), G12 VCC (power), H4 VCC (power), J12 VCC (power), K1 VCCQ (power), M1 VCC (power), M8 VCC (power), M12 VCCQ (power), M13 VCC (PLL2) (power), M15 VCCQ (power), N13 VCC (PLL1) (power), P5 VCC (power), R1 VCCQ (power), R10 VCCQ (power)
part D pins: A11 VSS (power), A14 VSSQ (power), B1 VSSQ (power), B4 VSS (power), B7 VSSQ (power), D14 VSS (power), E1 VSS (power), F14 VSSQ (power), G13 VSS (power), H3 VSS (power), J13 VSS (power), K2 VSSQ (power), M2 VSS (power), M14 VSSQ (power), N8 VSS (power), N14 VSS (PLL2) (power), P10 VSSQ (power), P14 VSSQ (power), P15 VSS (PLL1) (power), R2 VSSQ (power), R5 VSS (power)

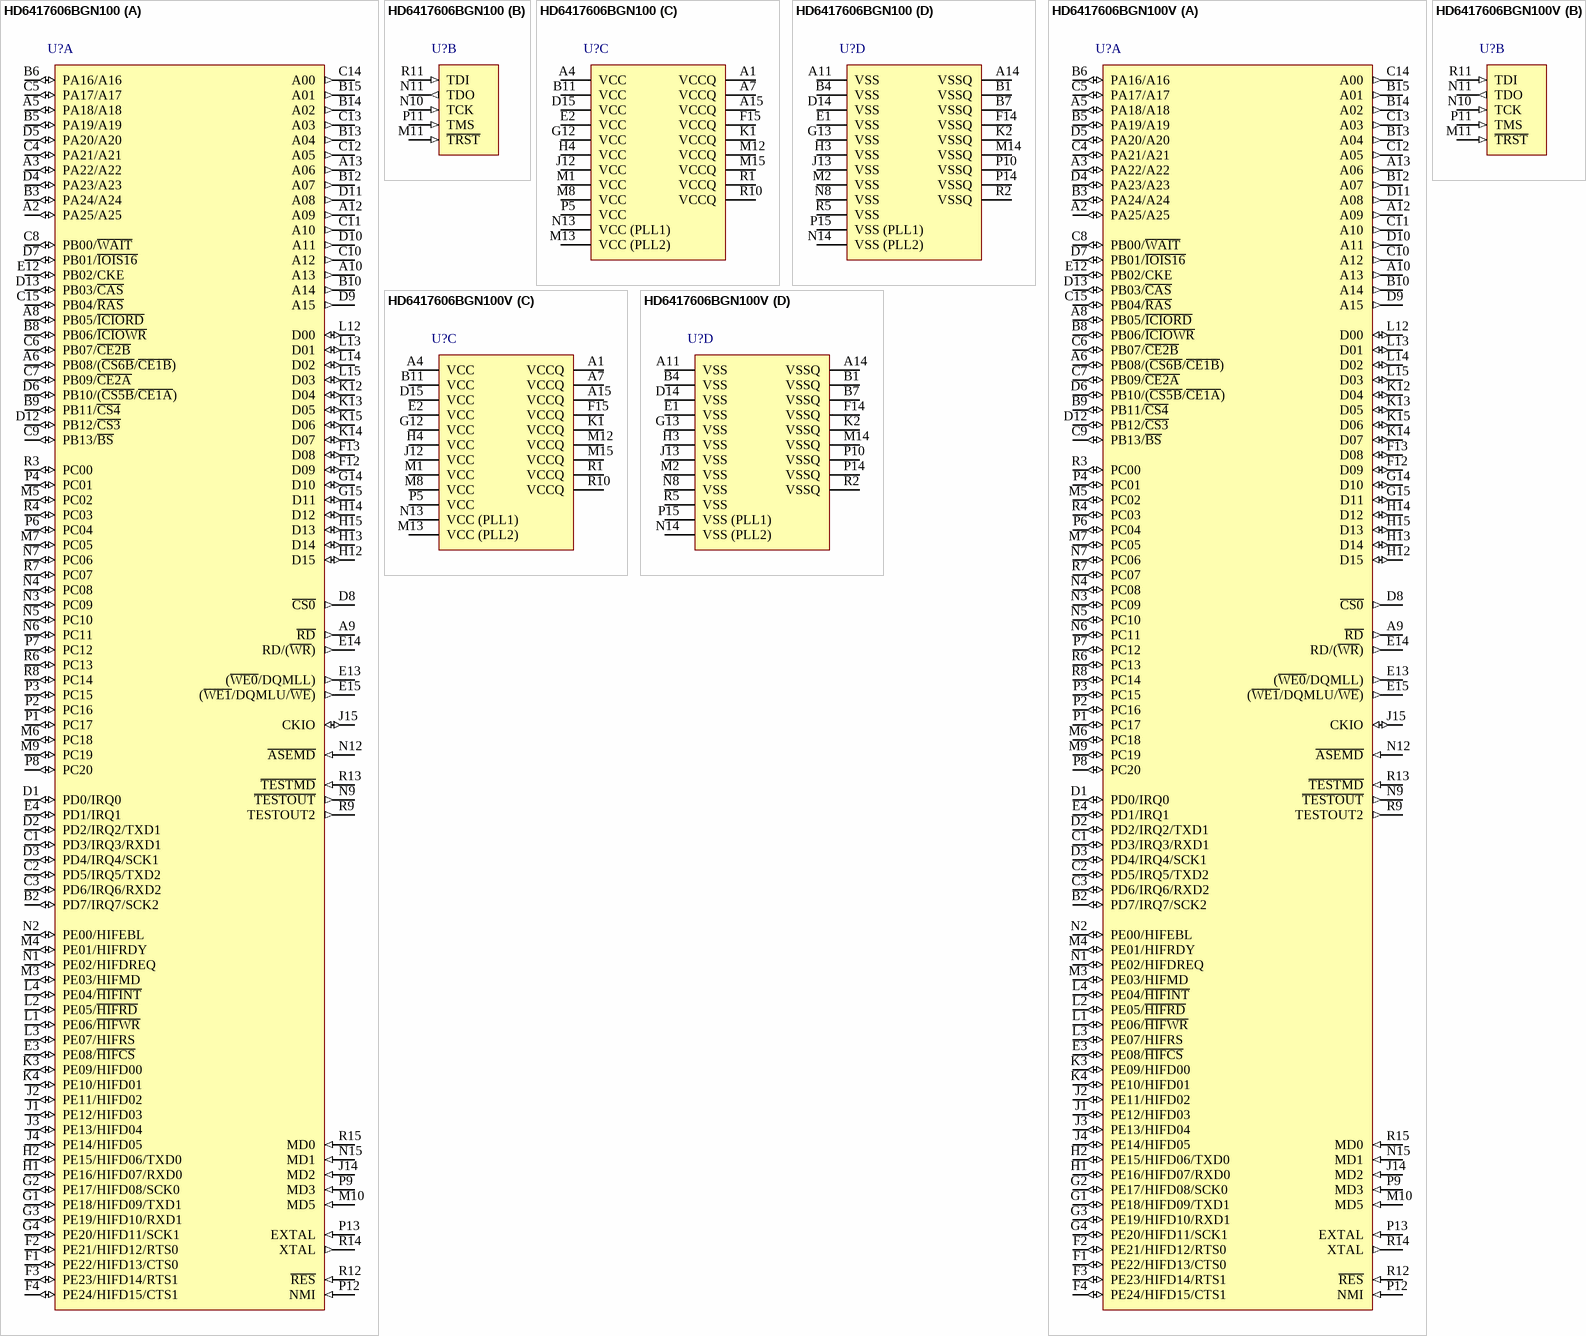
[diagram p14: symbols HD6417606BGN100 to HD6417606BGN100V]

## HD6417606BGN100
designator U?
32-Bit RISC Microcomputer, SH7606 Series, SH-2 core, 100MHz, 4K RAM, PLBG0176GA-A (BP-176) Package, -20 to 75°C; Published: 28-Aug-2009; DatasheetVersion: Rev.4.00, Sep-2007; PackageVersion: Apr-2006; PackageReference: PLBG0176GA-A; Publisher: Altium Limited; PackageDescription: 176-Ball Plastic Low Profile Fine-Pitch BGA, 13 x 13 mm Body, 0.8 mm Pitch; Code_JEITA: P-LFBGA176-13x13-0.80; ComponentLink1Description: Manufacturer Link; ComponentLink1URL: http://www.renesas.com/fmwk.jsp?cnt=sh7606_root.jsp&fp=/products/mpumcu/superh_family/sh7606_series/sh7606_group/; ComponentLink2Description: Datasheet; ComponentLink2URL: http://documentation.renesas.com/eng/products/mpumcu/rej09b0239_sh7606.pdf; ComponentLink3Description: Packaging Specification; ComponentLink3URL: http://sg.renesas.com/media/products/common_info/package/pdf/ic/code/plbg0176ga_a.pdf
footprint PLBG0176GA-A (BGA, 176-Leads, Body 13x13mm, Pitch 0.8mm)
part A pins: A2 PA25/A25 (io), A3 PA22/A22 (io), A5 PA18/A18 (io), A6 PB08/(~{CS6B}/~{CE1B}) (io), A8 PB05/~{ICIORD} (io), A9 ~{RD} (out), A10 A13 (out), A12 A09 (out), A13 A06 (out), B2 PD7/IRQ7/SCK2 (io), B3 PA24/A24 (io), B5 PA19/A19 (io), B6 PA16/A16 (io), B8 PB06/~{ICIOWR} (io), B9 PB11/~{CS4} (io), B10 A14 (out), B12 A07 (out), B13 A04 (out), B14 A02 (out), B15 A01 (out), C1 PD3/IRQ3/RXD1 (io), C2 PD5/IRQ5/TXD2 (io), C3 PD6/IRQ6/RXD2 (io), C4 PA21/A21 (io), C5 PA17/A17 (io), C6 PB07/~{CE2B} (io), C7 PB09/~{CE2A} (io), C8 PB00/~{WAIT} (io), C9 PB13/~{BS} (io), C10 A12 (out), C11 A10 (out), C12 A05 (out), C13 A03 (out), C14 A00 (out), C15 PB04/~{RAS} (io), D1 PD0/IRQ0 (io), D2 PD2/IRQ2/TXD1 (io), D3 PD4/IRQ4/SCK1 (io), D4 PA23/A23 (io), D5 PA20/A20 (io), D6 PB10/(~{CS5B}/~{CE1A}) (io), D7 PB01/~{IOIS16} (io), D8 ~{CS0} (out), D9 A15 (out), D10 A11 (out), D11 A08 (out), D12 PB12/~{CS3} (io), D13 PB03/~{CAS} (io), E3 PE08/~{HIFCS} (io), E4 PD1/IRQ1 (io), E12 PB02/CKE (io), E13 (~{WE0}/DQMLL) (out), E14 RD/(~{WR}) (out), E15 (~{WE1}/DQMLU/~{WE}) (out), F1 PE22/HIFD13/CTS0 (io), F2 PE21/HIFD12/RTS0 (io), F3 PE23/HIFD14/RTS1 (io), F4 PE24/HIFD15/CTS1 (io), F12 D09 (io), F13 D08 (io), G1 PE18/HIFD09/TXD1 (io), G2 PE17/HIFD08/SCK0 (io), G3 PE19/HIFD10/RXD1 (io), G4 PE20/HIFD11/SCK1 (io), G14 D10 (io), G15 D11 (io), H1 PE16/HIFD07/RXD0 (io), H2 PE15/HIFD06/TXD0 (io), H12 D15 (io), H13 D14 (io), H14 D12 (io), H15 D13 (io), J1 PE12/HIFD03 (io), J2 PE11/HIFD02 (io), J3 PE13/HIFD04 (io), J4 PE14/HIFD05 (io), J14 MD2 (in), J15 CKIO (io), K3 PE09/HIFD00 (io), K4 PE10/HIFD01 (io), K12 D04 (io), K13 D05 (io), K14 D07 (io), K15 D06 (io), L1 PE06/~{HIFWR} (io), L2 PE05/~{HIFRD} (io), L3 PE07/HIFRS (io), L4 PE04/~{HIFINT} (io), L12 D00 (io), L13 D01 (io), L14 D02 (io), L15 D03 (io), M3 PE03/HIFMD (io), M4 PE01/HIFRDY (io), M5 PC02 (io), M6 PC18 (io), M7 PC05 (io), M9 PC19 (io), M10 MD5 (in), N1 PE02/HIFDREQ (io), N2 PE00/HIFEBL (io), N3 PC09 (io), N4 PC08 (io), N5 PC10 (io), N6 PC11 (io), N7 PC06 (io), N9 ~{TESTOUT} (out), N12 ~{ASEMD} (in), N15 MD1 (in), P1 PC17 (io), P2 PC16 (io), P3 PC15 (io), P4 PC01 (io), P6 PC04 (io), P7 PC12 (io), P8 PC20 (io), P9 MD3 (in), P12 NMI (in), P13 EXTAL (in), R3 PC00 (io), R4 PC03 (io), R6 PC13 (io), R7 PC07 (io), R8 PC14 (io), R9 TESTOUT2 (out), R12 ~{RES} (in), R13 ~{TESTMD} (in), R14 XTAL (out), R15 MD0 (in)
part B pins: M11 ~{TRST} (in), N10 TCK (in), N11 TDO (out), P11 TMS (in), R11 TDI (in)
part C pins: A1 VCCQ (power), A4 VCC (power), A7 VCCQ (power), A15 VCCQ (power), B11 VCC (power), D15 VCC (power), E2 VCC (power), F15 VCCQ (power), G12 VCC (power), H4 VCC (power), J12 VCC (power), K1 VCCQ (power), M1 VCC (power), M8 VCC (power), M12 VCCQ (power), M13 VCC (PLL2) (power), M15 VCCQ (power), N13 VCC (PLL1) (power), P5 VCC (power), R1 VCCQ (power), R10 VCCQ (power)
part D pins: A11 VSS (power), A14 VSSQ (power), B1 VSSQ (power), B4 VSS (power), B7 VSSQ (power), D14 VSS (power), E1 VSS (power), F14 VSSQ (power), G13 VSS (power), H3 VSS (power), J13 VSS (power), K2 VSSQ (power), M2 VSS (power), M14 VSSQ (power), N8 VSS (power), N14 VSS (PLL2) (power), P10 VSSQ (power), P14 VSSQ (power), P15 VSS (PLL1) (power), R2 VSSQ (power), R5 VSS (power)

## HD6417606BGN100V
designator U?
32-Bit RISC Microcomputer, SH7606 Series, SH-2 core, 100MHz, 4K RAM, PLBG0176GA-A (BP-176V) Package, -20 to 75°C; Published: 28-Aug-2009; DatasheetVersion: Rev.4.00, Sep-2007; PackageVersion: Apr-2006; PackageReference: PLBG0176GA-A; Publisher: Altium Limited; PackageDescription: 176-Ball Plastic Low Profile Fine-Pitch BGA, 13 x 13 mm Body, 0.8 mm Pitch; Code_JEITA: P-LFBGA176-13x13-0.80; ComponentLink1Description: Manufacturer Link; ComponentLink1URL: http://www.renesas.com/fmwk.jsp?cnt=sh7606_root.jsp&fp=/products/mpumcu/superh_family/sh7606_series/sh7606_group/; ComponentLink2Description: Datasheet; ComponentLink2URL: http://documentation.renesas.com/eng/products/mpumcu/rej09b0239_sh7606.pdf; ComponentLink3Description: Packaging Specification; ComponentLink3URL: http://sg.renesas.com/media/products/common_info/package/pdf/ic/code/plbg0176ga_a.pdf
footprint PLBG0176GA-A (BGA, 176-Leads, Body 13x13mm, Pitch 0.8mm)
part A pins: A2 PA25/A25 (io), A3 PA22/A22 (io), A5 PA18/A18 (io), A6 PB08/(~{CS6B}/~{CE1B}) (io), A8 PB05/~{ICIORD} (io), A9 ~{RD} (out), A10 A13 (out), A12 A09 (out), A13 A06 (out), B2 PD7/IRQ7/SCK2 (io), B3 PA24/A24 (io), B5 PA19/A19 (io), B6 PA16/A16 (io), B8 PB06/~{ICIOWR} (io), B9 PB11/~{CS4} (io), B10 A14 (out), B12 A07 (out), B13 A04 (out), B14 A02 (out), B15 A01 (out), C1 PD3/IRQ3/RXD1 (io), C2 PD5/IRQ5/TXD2 (io), C3 PD6/IRQ6/RXD2 (io), C4 PA21/A21 (io), C5 PA17/A17 (io), C6 PB07/~{CE2B} (io), C7 PB09/~{CE2A} (io), C8 PB00/~{WAIT} (io), C9 PB13/~{BS} (io), C10 A12 (out), C11 A10 (out), C12 A05 (out), C13 A03 (out), C14 A00 (out), C15 PB04/~{RAS} (io), D1 PD0/IRQ0 (io), D2 PD2/IRQ2/TXD1 (io), D3 PD4/IRQ4/SCK1 (io), D4 PA23/A23 (io), D5 PA20/A20 (io), D6 PB10/(~{CS5B}/~{CE1A}) (io), D7 PB01/~{IOIS16} (io), D8 ~{CS0} (out), D9 A15 (out), D10 A11 (out), D11 A08 (out), D12 PB12/~{CS3} (io), D13 PB03/~{CAS} (io), E3 PE08/~{HIFCS} (io), E4 PD1/IRQ1 (io), E12 PB02/CKE (io), E13 (~{WE0}/DQMLL) (out), E14 RD/(~{WR}) (out), E15 (~{WE1}/DQMLU/~{WE}) (out), F1 PE22/HIFD13/CTS0 (io), F2 PE21/HIFD12/RTS0 (io), F3 PE23/HIFD14/RTS1 (io), F4 PE24/HIFD15/CTS1 (io), F12 D09 (io), F13 D08 (io), G1 PE18/HIFD09/TXD1 (io), G2 PE17/HIFD08/SCK0 (io), G3 PE19/HIFD10/RXD1 (io), G4 PE20/HIFD11/SCK1 (io), G14 D10 (io), G15 D11 (io), H1 PE16/HIFD07/RXD0 (io), H2 PE15/HIFD06/TXD0 (io), H12 D15 (io), H13 D14 (io), H14 D12 (io), H15 D13 (io), J1 PE12/HIFD03 (io), J2 PE11/HIFD02 (io), J3 PE13/HIFD04 (io), J4 PE14/HIFD05 (io), J14 MD2 (in), J15 CKIO (io), K3 PE09/HIFD00 (io), K4 PE10/HIFD01 (io), K12 D04 (io), K13 D05 (io), K14 D07 (io), K15 D06 (io), L1 PE06/~{HIFWR} (io), L2 PE05/~{HIFRD} (io), L3 PE07/HIFRS (io), L4 PE04/~{HIFINT} (io), L12 D00 (io), L13 D01 (io), L14 D02 (io), L15 D03 (io), M3 PE03/HIFMD (io), M4 PE01/HIFRDY (io), M5 PC02 (io), M6 PC18 (io), M7 PC05 (io), M9 PC19 (io), M10 MD5 (in), N1 PE02/HIFDREQ (io), N2 PE00/HIFEBL (io), N3 PC09 (io), N4 PC08 (io), N5 PC10 (io), N6 PC11 (io), N7 PC06 (io), N9 ~{TESTOUT} (out), N12 ~{ASEMD} (in), N15 MD1 (in), P1 PC17 (io), P2 PC16 (io), P3 PC15 (io), P4 PC01 (io), P6 PC04 (io), P7 PC12 (io), P8 PC20 (io), P9 MD3 (in), P12 NMI (in), P13 EXTAL (in), R3 PC00 (io), R4 PC03 (io), R6 PC13 (io), R7 PC07 (io), R8 PC14 (io), R9 TESTOUT2 (out), R12 ~{RES} (in), R13 ~{TESTMD} (in), R14 XTAL (out), R15 MD0 (in)
part B pins: M11 ~{TRST} (in), N10 TCK (in), N11 TDO (out), P11 TMS (in), R11 TDI (in)
part C pins: A1 VCCQ (power), A4 VCC (power), A7 VCCQ (power), A15 VCCQ (power), B11 VCC (power), D15 VCC (power), E2 VCC (power), F15 VCCQ (power), G12 VCC (power), H4 VCC (power), J12 VCC (power), K1 VCCQ (power), M1 VCC (power), M8 VCC (power), M12 VCCQ (power), M13 VCC (PLL2) (power), M15 VCCQ (power), N13 VCC (PLL1) (power), P5 VCC (power), R1 VCCQ (power), R10 VCCQ (power)
part D pins: A11 VSS (power), A14 VSSQ (power), B1 VSSQ (power), B4 VSS (power), B7 VSSQ (power), D14 VSS (power), E1 VSS (power), F14 VSSQ (power), G13 VSS (power), H3 VSS (power), J13 VSS (power), K2 VSSQ (power), M2 VSS (power), M14 VSSQ (power), N8 VSS (power), N14 VSS (PLL2) (power), P10 VSSQ (power), P14 VSSQ (power), P15 VSS (PLL1) (power), R2 VSSQ (power), R5 VSS (power)

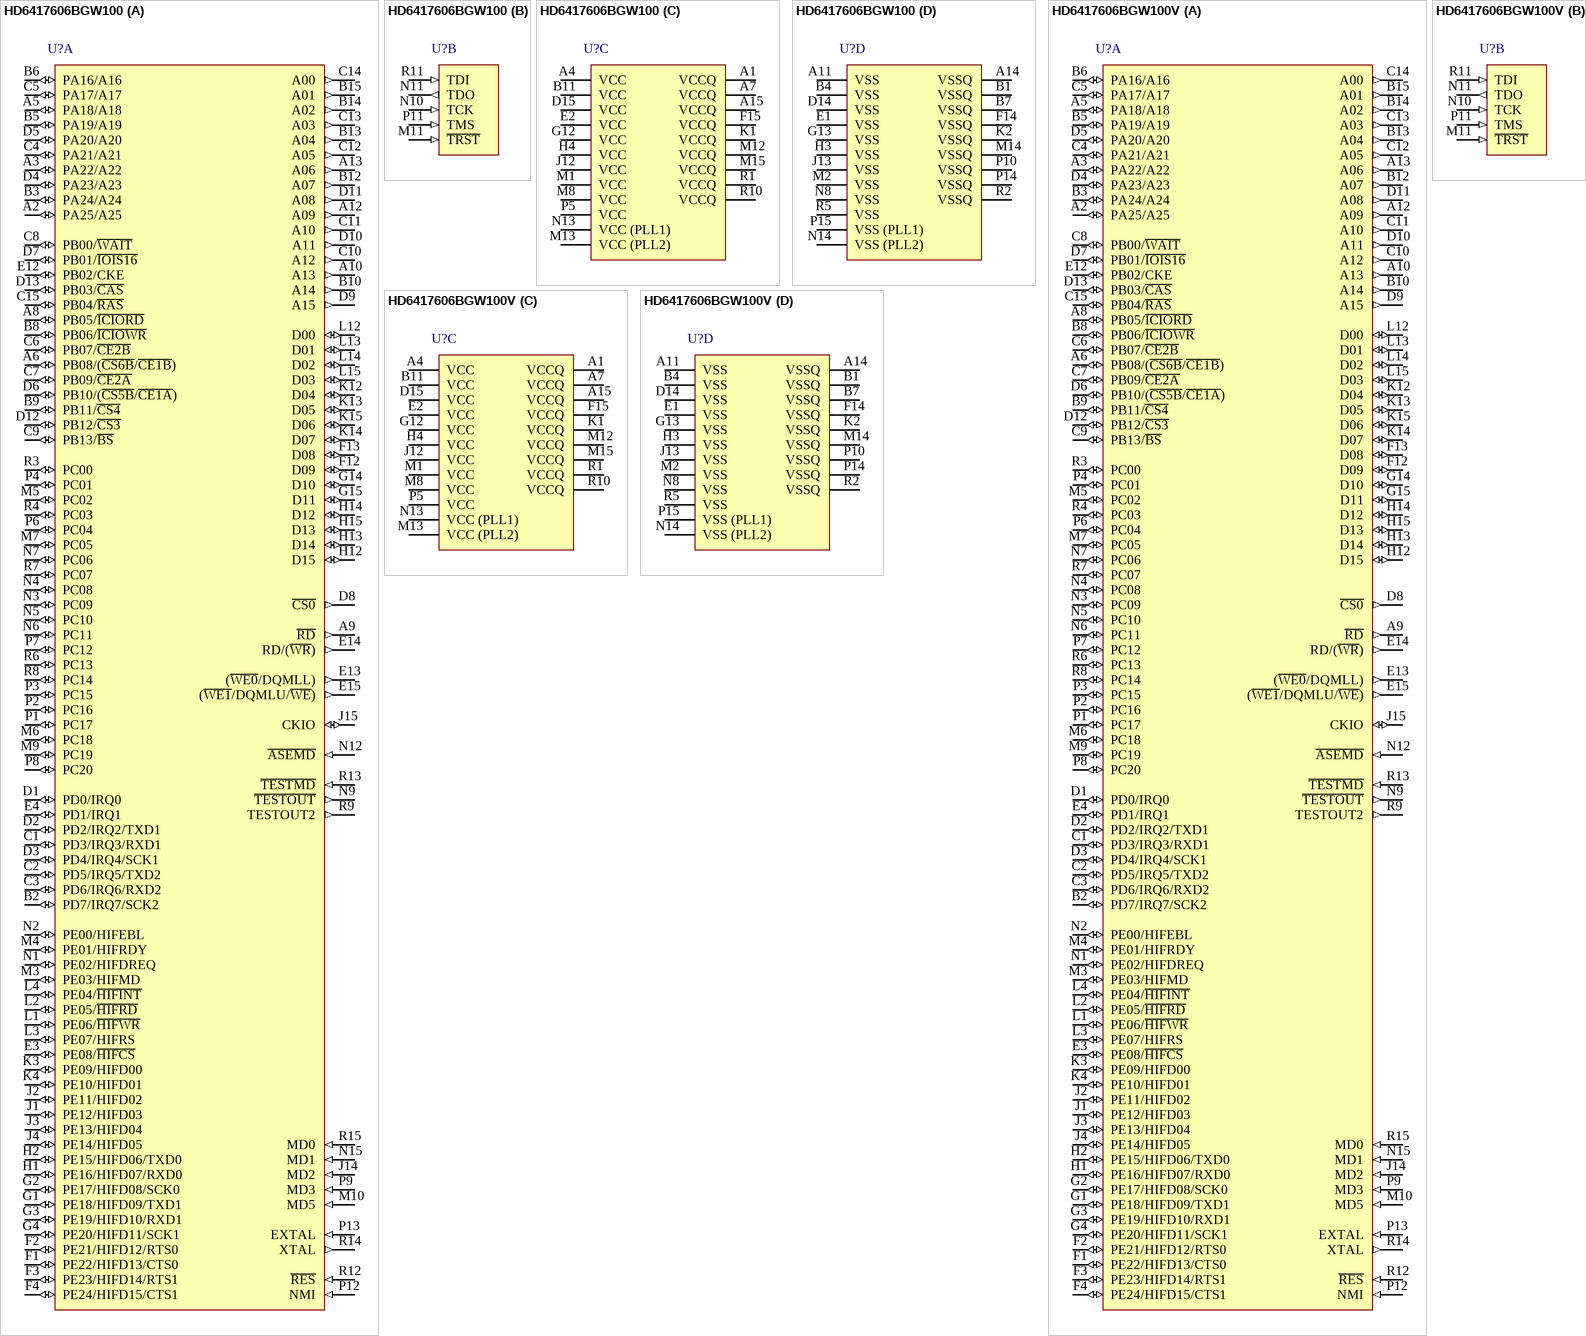
[diagram p15: symbols HD6417606BGW100 to HD6417606BGW100V]

## HD6417606BGW100
designator U?
32-Bit RISC Microcomputer, SH7606 Series, SH-2 core, 100MHz, 4K RAM, PLBG0176GA-A (BP-176) Package, -40 to 85°C; Published: 28-Aug-2009; DatasheetVersion: Rev.4.00, Sep-2007; PackageVersion: Apr-2006; PackageReference: PLBG0176GA-A; Publisher: Altium Limited; PackageDescription: 176-Ball Plastic Low Profile Fine-Pitch BGA, 13 x 13 mm Body, 0.8 mm Pitch; Code_JEITA: P-LFBGA176-13x13-0.80; ComponentLink1Description: Manufacturer Link; ComponentLink1URL: http://www.renesas.com/fmwk.jsp?cnt=sh7606_root.jsp&fp=/products/mpumcu/superh_family/sh7606_series/sh7606_group/; ComponentLink2Description: Datasheet; ComponentLink2URL: http://documentation.renesas.com/eng/products/mpumcu/rej09b0239_sh7606.pdf; ComponentLink3Description: Packaging Specification; ComponentLink3URL: http://sg.renesas.com/media/products/common_info/package/pdf/ic/code/plbg0176ga_a.pdf
footprint PLBG0176GA-A (BGA, 176-Leads, Body 13x13mm, Pitch 0.8mm)
part A pins: A2 PA25/A25 (io), A3 PA22/A22 (io), A5 PA18/A18 (io), A6 PB08/(~{CS6B}/~{CE1B}) (io), A8 PB05/~{ICIORD} (io), A9 ~{RD} (out), A10 A13 (out), A12 A09 (out), A13 A06 (out), B2 PD7/IRQ7/SCK2 (io), B3 PA24/A24 (io), B5 PA19/A19 (io), B6 PA16/A16 (io), B8 PB06/~{ICIOWR} (io), B9 PB11/~{CS4} (io), B10 A14 (out), B12 A07 (out), B13 A04 (out), B14 A02 (out), B15 A01 (out), C1 PD3/IRQ3/RXD1 (io), C2 PD5/IRQ5/TXD2 (io), C3 PD6/IRQ6/RXD2 (io), C4 PA21/A21 (io), C5 PA17/A17 (io), C6 PB07/~{CE2B} (io), C7 PB09/~{CE2A} (io), C8 PB00/~{WAIT} (io), C9 PB13/~{BS} (io), C10 A12 (out), C11 A10 (out), C12 A05 (out), C13 A03 (out), C14 A00 (out), C15 PB04/~{RAS} (io), D1 PD0/IRQ0 (io), D2 PD2/IRQ2/TXD1 (io), D3 PD4/IRQ4/SCK1 (io), D4 PA23/A23 (io), D5 PA20/A20 (io), D6 PB10/(~{CS5B}/~{CE1A}) (io), D7 PB01/~{IOIS16} (io), D8 ~{CS0} (out), D9 A15 (out), D10 A11 (out), D11 A08 (out), D12 PB12/~{CS3} (io), D13 PB03/~{CAS} (io), E3 PE08/~{HIFCS} (io), E4 PD1/IRQ1 (io), E12 PB02/CKE (io), E13 (~{WE0}/DQMLL) (out), E14 RD/(~{WR}) (out), E15 (~{WE1}/DQMLU/~{WE}) (out), F1 PE22/HIFD13/CTS0 (io), F2 PE21/HIFD12/RTS0 (io), F3 PE23/HIFD14/RTS1 (io), F4 PE24/HIFD15/CTS1 (io), F12 D09 (io), F13 D08 (io), G1 PE18/HIFD09/TXD1 (io), G2 PE17/HIFD08/SCK0 (io), G3 PE19/HIFD10/RXD1 (io), G4 PE20/HIFD11/SCK1 (io), G14 D10 (io), G15 D11 (io), H1 PE16/HIFD07/RXD0 (io), H2 PE15/HIFD06/TXD0 (io), H12 D15 (io), H13 D14 (io), H14 D12 (io), H15 D13 (io), J1 PE12/HIFD03 (io), J2 PE11/HIFD02 (io), J3 PE13/HIFD04 (io), J4 PE14/HIFD05 (io), J14 MD2 (in), J15 CKIO (io), K3 PE09/HIFD00 (io), K4 PE10/HIFD01 (io), K12 D04 (io), K13 D05 (io), K14 D07 (io), K15 D06 (io), L1 PE06/~{HIFWR} (io), L2 PE05/~{HIFRD} (io), L3 PE07/HIFRS (io), L4 PE04/~{HIFINT} (io), L12 D00 (io), L13 D01 (io), L14 D02 (io), L15 D03 (io), M3 PE03/HIFMD (io), M4 PE01/HIFRDY (io), M5 PC02 (io), M6 PC18 (io), M7 PC05 (io), M9 PC19 (io), M10 MD5 (in), N1 PE02/HIFDREQ (io), N2 PE00/HIFEBL (io), N3 PC09 (io), N4 PC08 (io), N5 PC10 (io), N6 PC11 (io), N7 PC06 (io), N9 ~{TESTOUT} (out), N12 ~{ASEMD} (in), N15 MD1 (in), P1 PC17 (io), P2 PC16 (io), P3 PC15 (io), P4 PC01 (io), P6 PC04 (io), P7 PC12 (io), P8 PC20 (io), P9 MD3 (in), P12 NMI (in), P13 EXTAL (in), R3 PC00 (io), R4 PC03 (io), R6 PC13 (io), R7 PC07 (io), R8 PC14 (io), R9 TESTOUT2 (out), R12 ~{RES} (in), R13 ~{TESTMD} (in), R14 XTAL (out), R15 MD0 (in)
part B pins: M11 ~{TRST} (in), N10 TCK (in), N11 TDO (out), P11 TMS (in), R11 TDI (in)
part C pins: A1 VCCQ (power), A4 VCC (power), A7 VCCQ (power), A15 VCCQ (power), B11 VCC (power), D15 VCC (power), E2 VCC (power), F15 VCCQ (power), G12 VCC (power), H4 VCC (power), J12 VCC (power), K1 VCCQ (power), M1 VCC (power), M8 VCC (power), M12 VCCQ (power), M13 VCC (PLL2) (power), M15 VCCQ (power), N13 VCC (PLL1) (power), P5 VCC (power), R1 VCCQ (power), R10 VCCQ (power)
part D pins: A11 VSS (power), A14 VSSQ (power), B1 VSSQ (power), B4 VSS (power), B7 VSSQ (power), D14 VSS (power), E1 VSS (power), F14 VSSQ (power), G13 VSS (power), H3 VSS (power), J13 VSS (power), K2 VSSQ (power), M2 VSS (power), M14 VSSQ (power), N8 VSS (power), N14 VSS (PLL2) (power), P10 VSSQ (power), P14 VSSQ (power), P15 VSS (PLL1) (power), R2 VSSQ (power), R5 VSS (power)

## HD6417606BGW100V
designator U?
32-Bit RISC Microcomputer, SH7606 Series, SH-2 core, 100MHz, 4K RAM, PLBG0176GA-A (BP-176V) Package, -40 to 85°C; Published: 28-Aug-2009; DatasheetVersion: Rev.4.00, Sep-2007; PackageVersion: Apr-2006; PackageReference: PLBG0176GA-A; Publisher: Altium Limited; PackageDescription: 176-Ball Plastic Low Profile Fine-Pitch BGA, 13 x 13 mm Body, 0.8 mm Pitch; Code_JEITA: P-LFBGA176-13x13-0.80; ComponentLink1Description: Manufacturer Link; ComponentLink1URL: http://www.renesas.com/fmwk.jsp?cnt=sh7606_root.jsp&fp=/products/mpumcu/superh_family/sh7606_series/sh7606_group/; ComponentLink2Description: Datasheet; ComponentLink2URL: http://documentation.renesas.com/eng/products/mpumcu/rej09b0239_sh7606.pdf; ComponentLink3Description: Packaging Specification; ComponentLink3URL: http://sg.renesas.com/media/products/common_info/package/pdf/ic/code/plbg0176ga_a.pdf
footprint PLBG0176GA-A (BGA, 176-Leads, Body 13x13mm, Pitch 0.8mm)
part A pins: A2 PA25/A25 (io), A3 PA22/A22 (io), A5 PA18/A18 (io), A6 PB08/(~{CS6B}/~{CE1B}) (io), A8 PB05/~{ICIORD} (io), A9 ~{RD} (out), A10 A13 (out), A12 A09 (out), A13 A06 (out), B2 PD7/IRQ7/SCK2 (io), B3 PA24/A24 (io), B5 PA19/A19 (io), B6 PA16/A16 (io), B8 PB06/~{ICIOWR} (io), B9 PB11/~{CS4} (io), B10 A14 (out), B12 A07 (out), B13 A04 (out), B14 A02 (out), B15 A01 (out), C1 PD3/IRQ3/RXD1 (io), C2 PD5/IRQ5/TXD2 (io), C3 PD6/IRQ6/RXD2 (io), C4 PA21/A21 (io), C5 PA17/A17 (io), C6 PB07/~{CE2B} (io), C7 PB09/~{CE2A} (io), C8 PB00/~{WAIT} (io), C9 PB13/~{BS} (io), C10 A12 (out), C11 A10 (out), C12 A05 (out), C13 A03 (out), C14 A00 (out), C15 PB04/~{RAS} (io), D1 PD0/IRQ0 (io), D2 PD2/IRQ2/TXD1 (io), D3 PD4/IRQ4/SCK1 (io), D4 PA23/A23 (io), D5 PA20/A20 (io), D6 PB10/(~{CS5B}/~{CE1A}) (io), D7 PB01/~{IOIS16} (io), D8 ~{CS0} (out), D9 A15 (out), D10 A11 (out), D11 A08 (out), D12 PB12/~{CS3} (io), D13 PB03/~{CAS} (io), E3 PE08/~{HIFCS} (io), E4 PD1/IRQ1 (io), E12 PB02/CKE (io), E13 (~{WE0}/DQMLL) (out), E14 RD/(~{WR}) (out), E15 (~{WE1}/DQMLU/~{WE}) (out), F1 PE22/HIFD13/CTS0 (io), F2 PE21/HIFD12/RTS0 (io), F3 PE23/HIFD14/RTS1 (io), F4 PE24/HIFD15/CTS1 (io), F12 D09 (io), F13 D08 (io), G1 PE18/HIFD09/TXD1 (io), G2 PE17/HIFD08/SCK0 (io), G3 PE19/HIFD10/RXD1 (io), G4 PE20/HIFD11/SCK1 (io), G14 D10 (io), G15 D11 (io), H1 PE16/HIFD07/RXD0 (io), H2 PE15/HIFD06/TXD0 (io), H12 D15 (io), H13 D14 (io), H14 D12 (io), H15 D13 (io), J1 PE12/HIFD03 (io), J2 PE11/HIFD02 (io), J3 PE13/HIFD04 (io), J4 PE14/HIFD05 (io), J14 MD2 (in), J15 CKIO (io), K3 PE09/HIFD00 (io), K4 PE10/HIFD01 (io), K12 D04 (io), K13 D05 (io), K14 D07 (io), K15 D06 (io), L1 PE06/~{HIFWR} (io), L2 PE05/~{HIFRD} (io), L3 PE07/HIFRS (io), L4 PE04/~{HIFINT} (io), L12 D00 (io), L13 D01 (io), L14 D02 (io), L15 D03 (io), M3 PE03/HIFMD (io), M4 PE01/HIFRDY (io), M5 PC02 (io), M6 PC18 (io), M7 PC05 (io), M9 PC19 (io), M10 MD5 (in), N1 PE02/HIFDREQ (io), N2 PE00/HIFEBL (io), N3 PC09 (io), N4 PC08 (io), N5 PC10 (io), N6 PC11 (io), N7 PC06 (io), N9 ~{TESTOUT} (out), N12 ~{ASEMD} (in), N15 MD1 (in), P1 PC17 (io), P2 PC16 (io), P3 PC15 (io), P4 PC01 (io), P6 PC04 (io), P7 PC12 (io), P8 PC20 (io), P9 MD3 (in), P12 NMI (in), P13 EXTAL (in), R3 PC00 (io), R4 PC03 (io), R6 PC13 (io), R7 PC07 (io), R8 PC14 (io), R9 TESTOUT2 (out), R12 ~{RES} (in), R13 ~{TESTMD} (in), R14 XTAL (out), R15 MD0 (in)
part B pins: M11 ~{TRST} (in), N10 TCK (in), N11 TDO (out), P11 TMS (in), R11 TDI (in)
part C pins: A1 VCCQ (power), A4 VCC (power), A7 VCCQ (power), A15 VCCQ (power), B11 VCC (power), D15 VCC (power), E2 VCC (power), F15 VCCQ (power), G12 VCC (power), H4 VCC (power), J12 VCC (power), K1 VCCQ (power), M1 VCC (power), M8 VCC (power), M12 VCCQ (power), M13 VCC (PLL2) (power), M15 VCCQ (power), N13 VCC (PLL1) (power), P5 VCC (power), R1 VCCQ (power), R10 VCCQ (power)
part D pins: A11 VSS (power), A14 VSSQ (power), B1 VSSQ (power), B4 VSS (power), B7 VSSQ (power), D14 VSS (power), E1 VSS (power), F14 VSSQ (power), G13 VSS (power), H3 VSS (power), J13 VSS (power), K2 VSSQ (power), M2 VSS (power), M14 VSSQ (power), N8 VSS (power), N14 VSS (PLL2) (power), P10 VSSQ (power), P14 VSSQ (power), P15 VSS (PLL1) (power), R2 VSSQ (power), R5 VSS (power)

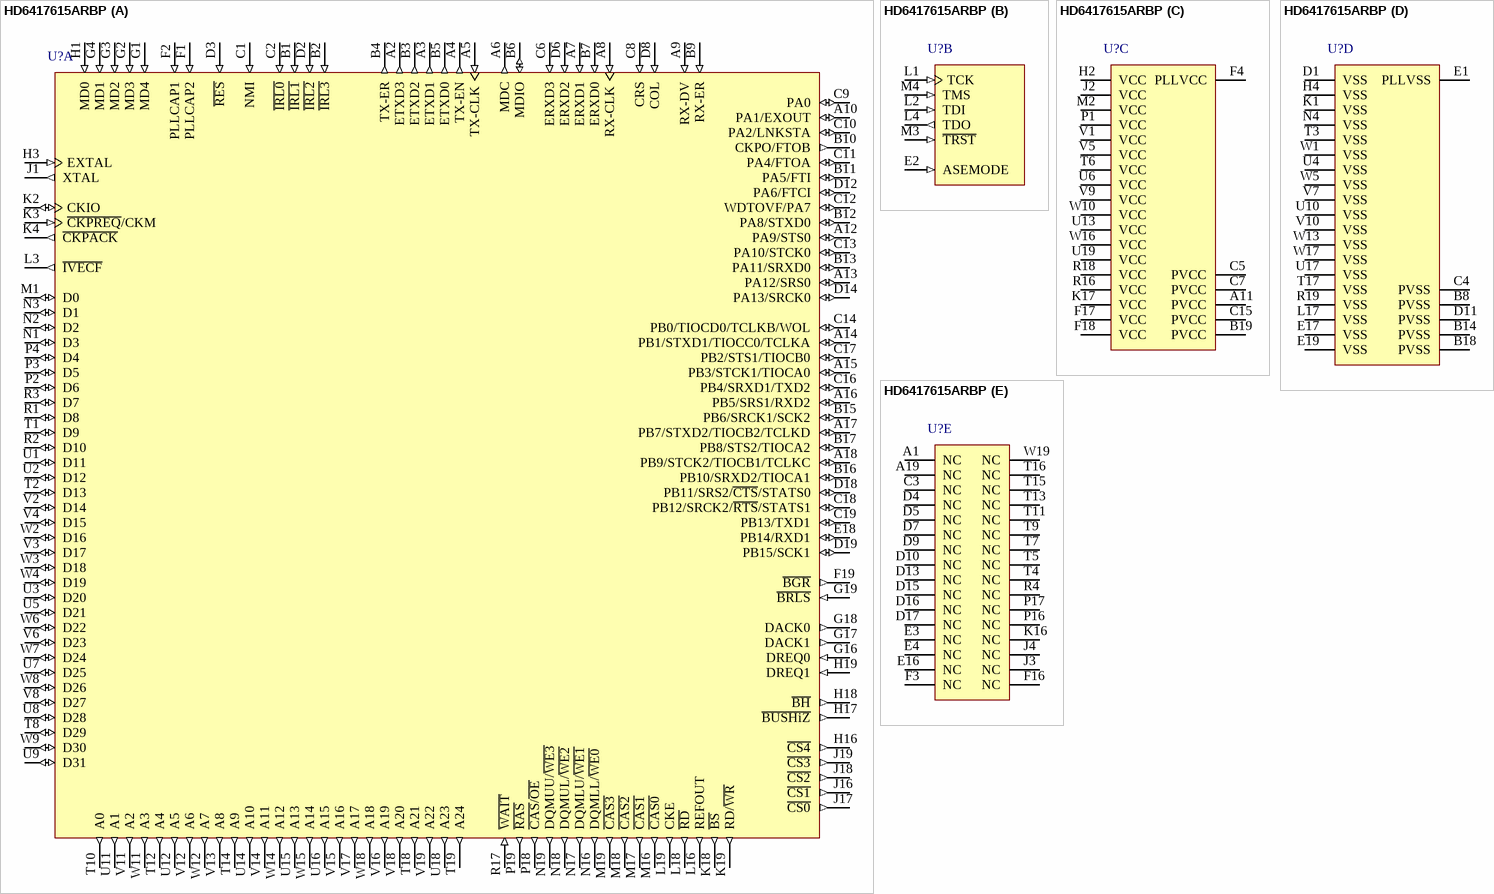
[diagram p16: symbol HD6417615ARBP]

## HD6417615ARBP
designator U?
32-Bit RISC Microcomputer, SH-Ether Series, SH2-DSP core, 62.5MHz, 8K RAM, 240-pin PLBGA, -20 to 75°C; Published: 28-Aug-2009; DatasheetVersion: Rev.2.00, Mar-2005; PackageVersion: Sep-2005; PackageReference: PLBG0240JA-A; Publisher: Altium Limited; PackageDescription: 240-Ball Plastic Low Profile Fine-Pitch BGA, 13 x 13 mm Body, 0.65 mm Pitch; Code_JEITA: P-LFBGA240-13x13-0.65; ComponentLink1Description: Manufacturer Link; ComponentLink1URL: http://www.renesas.com/fmwk.jsp?cnt=sh7615_root.jsp&fp=/products/mpumcu/superh_family/shether_series/sh7615_group/; ComponentLink2Description: Datasheet; ComponentLink2URL: http://documentation.renesas.com/eng/products/mpumcu/rej09b0157_sh7615.pdf; ComponentLink3Description: Packaging Specification; ComponentLink3URL: http://sg.renesas.com/media/products/common_info/package/pdf/ic/code/plbg0240ja_a.pdf
footprint PLBG0240JA-A (BGA, 240-Leads, Body 13x13mm, Pitch 0.65mm)
part A pins: A2 ETXD3 (out), A3 ETXD1 (out), A4 TX-EN (out), A5 TX-CLK (in), A6 MDC (out), A7 ERXD1 (in), A8 RX-CLK (in), A9 RX-DV (in), A10 PA1/EXOUT (io), A12 PA9/STS0 (io), A13 PA12/SRS0 (io), A14 PB1/STXD1/TIOCC0/TCLKA (io), A15 PB3/STCK1/TIOCA0 (io), A16 PB5/SRS1/RXD2 (io), A17 PB7/STXD2/TIOCB2/TCLKD (io), A18 PB9/STCK2/TIOCB1/TCLKC (io), B1 ~{IRL1} (in), B2 ~{IRL3} (in), B3 ETXD2 (out), B4 TX-ER (out), B5 ETXD0 (out), B6 MDIO (io), B7 ERXD0 (in), B9 RX-ER (in), B10 CKPO/FTOB (out), B11 PA5/FTI (io), B12 PA8/STXD0 (io), B13 PA11/SRXD0 (io), B15 PB6/SRCK1/SCK2 (io), B16 PB10/SRXD2/TIOCA1 (io), B17 PB8/STS2/TIOCA2 (io), C1 NMI (in), C2 ~{IRL0} (in), C6 ERXD3 (in), C8 CRS (in), C9 PA0 (io), C10 PA2/LNKSTA (io), C11 PA4/FTOA (io), C12 WDTOVF/PA7 (io), C13 PA10/STCK0 (io), C14 PB0/TIOCD0/TCLKB/WOL (io), C16 PB4/SRXD1/TXD2 (io), C17 PB2/STS1/TIOCB0 (io), C18 PB12/SRCK2/~{RTS}/STATS1 (io), C19 PB13/TXD1 (io), D2 ~{IRL2} (in), D3 ~{RES} (in), D6 ERXD2 (in), D8 COL (in), D12 PA6/FTCI (io), D14 PA13/SRCK0 (io), D18 PB11/SRS2/~{CTS}/STATS0 (io), D19 PB15/SCK1 (io), E18 PB14/RXD1 (io), F1 PLLCAP2 (in), F2 PLLCAP1 (in), F19 ~{BGR} (out), G1 MD4 (in), G2 MD3 (in), G3 MD2 (in), G4 MD1 (in), G16 DREQ0 (in), G17 DACK1 (out), G18 DACK0 (out), G19 ~{BRLS} (in), H1 MD0 (in), H3 EXTAL (in), H16 ~{CS4} (out), H17 ~{BUSHiZ} (out), H18 ~{BH} (out), H19 DREQ1 (in), J1 XTAL (out), J16 ~{CS1} (out), J17 ~{CS0} (out), J18 ~{CS2} (out), J19 ~{CS3} (out), K2 CKIO (io), K3 ~{CKPREQ}/CKM (in), K4 ~{CKPACK} (out), K18 ~{BS} (out), K19 RD/~{WR} (out), L3 ~{IVECF} (out), L16 REFOUT (out), L18 ~{RD} (out), L19 CKE (out), M1 D0 (io), M16 ~{CAS0} (out), M17 ~{CAS1} (out), M18 ~{CAS2} (out), M19 ~{CAS3} (out), N1 D3 (io), N2 D2 (io), N3 D1 (io), N16 DQMLL/~{WE0} (out), N17 DQMLU/~{WE1} (out), N18 DQMUL/~{WE2} (out), N19 DQMUU/~{WE3} (out), P2 D6 (io), P3 D5 (io), P4 D4 (io), P18 ~{CAS}/~{OE} (out), P19 ~{RAS} (out), R1 D8 (io), R2 D10 (io), R3 D7 (io), R17 ~{WAIT} (in), T1 D9 (io), T2 D13 (io), T8 D29 (io), T10 A0 (out), T12 A4 (out), T14 A9 (out), T18 A21 (out), T19 A24 (out), U1 D11 (io), U2 D12 (io), U3 D20 (io), U5 D21 (io), U7 D25 (io), U8 D28 (io), U9 D31 (io), U11 A1 (out), U12 A5 (out), U14 A10 (out), U15 A13 (out), U16 A15 (out), U18 A23 (out), V2 D14 (io), V3 D17 (io), V4 D15 (io), V6 D23 (io), V8 D27 (io), V11 A2 (out), V12 A6 (out), V13 A8 (out), V14 A11 (out), V15 A16 (out), V16 A19 (out), V17 A17 (out), V18 A20 (out), V19 A22 (out), W2 D16 (io), W3 D18 (io), W4 D19 (io), W6 D22 (io), W7 D24 (io), W8 D26 (io), W9 D30 (io), W11 A3 (out), W12 A7 (out), W14 A12 (out), W15 A14 (out), W18 A18 (out)
part B pins: E2 ASEMODE (in), L1 TCK (in), L2 TDI (in), L4 TDO (out), M3 ~{TRST} (in), M4 TMS (in)
part C pins: A11 PVCC (power), B19 PVCC (power), C5 PVCC (power), C7 PVCC (power), C15 PVCC (power), F4 PLLVCC (power), F17 VCC (power), F18 VCC (power), H2 VCC (power), J2 VCC (power), K17 VCC (power), M2 VCC (power), P1 VCC (power), R16 VCC (power), R18 VCC (power), T6 VCC (power), U6 VCC (power), U13 VCC (power), U19 VCC (power), V1 VCC (power), V5 VCC (power), V9 VCC (power), W10 VCC (power), W16 VCC (power)
part D pins: B8 PVSS (power), B14 PVSS (power), B18 PVSS (power), C4 PVSS (power), D1 VSS (power), D11 PVSS (power), E1 PLLVSS (power), E17 VSS (power), E19 VSS (power), H4 VSS (power), K1 VSS (power), L17 VSS (power), N4 VSS (power), R19 VSS (power), T3 VSS (power), T17 VSS (power), U4 VSS (power), U10 VSS (power), U17 VSS (power), V7 VSS (power), V10 VSS (power), W1 VSS (power), W5 VSS (power), W13 VSS (power), W17 VSS (power)
part E pins: A1 NC, A19 NC, C3 NC, D4 NC, D5 NC, D7 NC, D9 NC, D10 NC, D13 NC, D15 NC, D16 NC, D17 NC, E3 NC, E4 NC, E16 NC, F3 NC, F16 NC, J3 NC, J4 NC, K16 NC, P16 NC, P17 NC, R4 NC, T4 NC, T5 NC, T7 NC, T9 NC, T11 NC, T13 NC, T15 NC, T16 NC, W19 NC

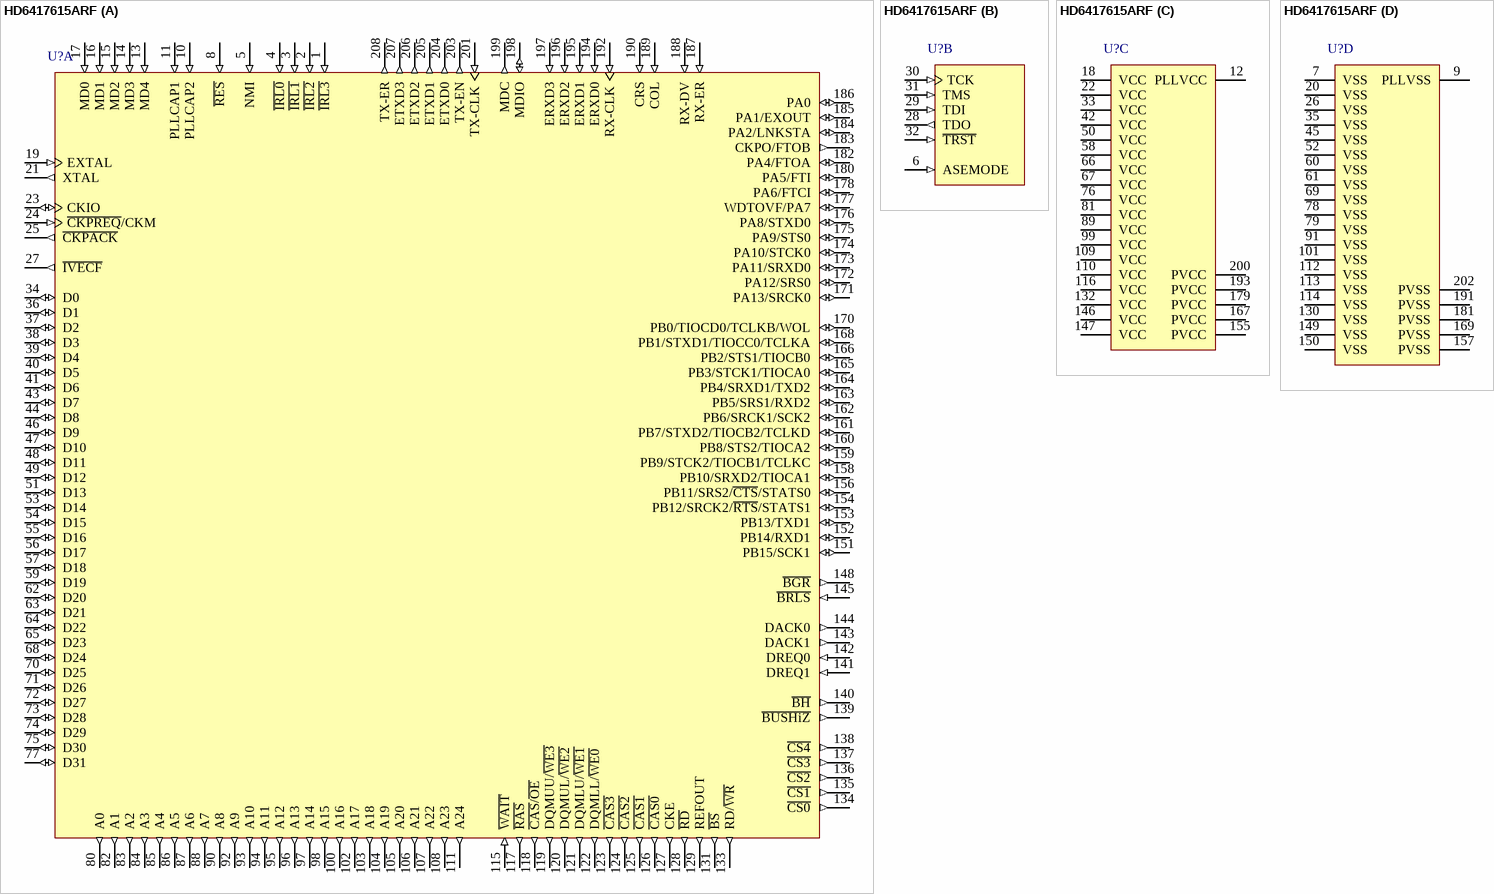
[diagram p17: symbol HD6417615ARF]